# EAGLE library part PSH0*-08 (library connectors)
PSH0*-04 Male Connector
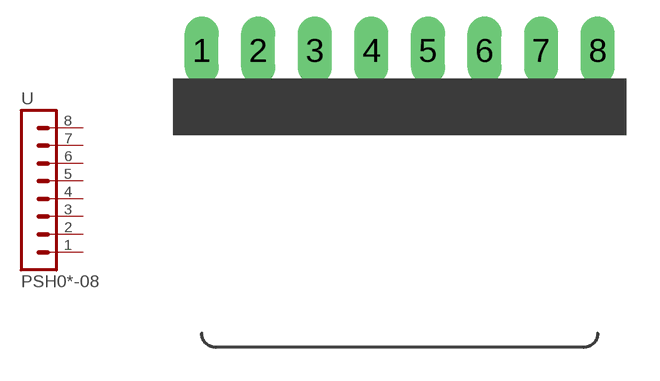
[diagram p0: symbol with the pads of PSH02-08WG; footprint PSH02-08WG]

Designator prefix -

## PSH0-08WG2  [PSH02-08WG]
1  1  pas
2  2  pas
3  3  pas
4  4  pas
5  5  pas
6  6  pas
7  7  pas
8  8  pas

## Footprint PSH02-08WG (pad centres in mm)
PSH02-08WG
drill 1.016 long: 1 -8.89,2.54; 2 -6.35,2.54; 3 -3.81,2.54; 4 -1.27,2.54; 5 1.27,2.54; 6 3.81,2.54; 7 6.35,2.54; 8 8.89,2.54